# Altium footprint library ESDALC6V1W5.PcbLib: 3 footprints
Each footprint in its own frame and in the unit in brackets; x right, y up, seen from the top. Pads: shape width x height; smd on the part's side, far side on the other; paste and mask are expansions set on the pad; w line width, h text height; cw(c..) or ccw(c..) is an arc to the next point about the centre after c.
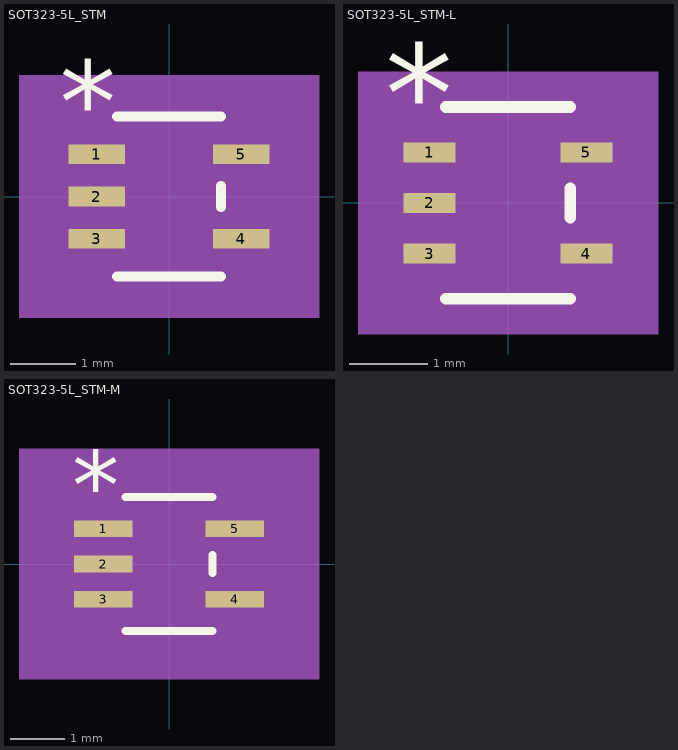
[diagram p0: the footprints below, top view; thin cyan lines are the x and y axes]

## SOT323-5L_STM [mil]
pads (5):
  rect 34.28x12 smd paste+0 mask+0: 1(-43.64,25.59) 2(-43.64,0) 3(-43.64,-25.59) 4(43.64,-25.59) 5(43.64,25.59)
Top Overlay:
  lines w6: -31.5,-48.5 31.5,-48.5 ; -31.5,48.5 31.5,48.5 ; 31.5,-6.49 31.5,6.49
  text "*" at -66.14,32.59 h50
Mechanical 5:
  region: 90.78,-73.5 -90.78,-73.5 -90.78,73.5 90.78,73.5
Mechanical 13:
  lines w0: -12,43.5 ccw(c0,43.5) 12,43.5
  lines w1: -47,-31.59 -47,-19.59 -26.5,-19.59 -26.5,-31.59 -47,-31.59 ; -47,-6 -47,6 -26.5,6 -26.5,-6 -47,-6 ; -47,19.59 -47,31.59 -26.5,31.59 -26.5,19.59 -47,19.59 ; -26.5,-43.5 26.5,-43.5 26.5,43.5 -26.5,43.5 -26.5,-43.5 ; 26.5,-31.59 26.5,-19.59 47,-19.59 47,-31.59 26.5,-31.59 ; 26.5,19.59 26.5,31.59 47,31.59 47,19.59 26.5,19.59
  text "*" at -29,-10.41 h50
Mechanical 15:
  region: 41.5,-58.5 -41.5,-58.5 -41.5,-37.59 -68,-37.59 -68,37.59 -41.5,37.59 -41.5,58.5 41.5,58.5 41.5,37.59 68,37.59 68,-37.59 41.5,-37.59
  lines w6: -68,-37.59 -41.5,-37.59 -41.5,-58.5 41.5,-58.5 41.5,-37.59 68,-37.59 68,37.59 41.5,37.59 41.5,58.5 -41.5,58.5 -41.5,37.59 -68,37.59 -68,-37.59
3D body: height 10, standoff 0, extent 0,0 10,10

## SOT323-5L_STM-L [mm]
pads (5):
  rect 0.671x0.255 smd paste+0 mask+0: 1(-1.008,0.65) 2(-1.008,0) 3(-1.008,-0.65) 4(1.008,-0.65) 5(1.008,0.65)
Top Overlay:
  lines w0.152: -0.8,-1.232 0.8,-1.232 ; -0.8,1.232 0.8,1.232 ; 0.8,-0.19 0.8,0.19
  text "*" at -1.58,0.778 h1.27
Mechanical 5:
  region: 1.928,-1.689 -1.928,-1.689 -1.928,1.689 1.928,1.689
Mechanical 13:
  lines w0: -0.305,1.105 ccw(c0,1.105) 0.305,1.105
  lines w0.025: -1.194,-0.802 -1.194,-0.498 -0.673,-0.498 -0.673,-0.802 -1.194,-0.802 ; -1.194,-0.152 -1.194,0.152 -0.673,0.152 -0.673,-0.152 -1.194,-0.152 ; -1.194,0.498 -1.194,0.802 -0.673,0.802 -0.673,0.498 -1.194,0.498 ; -0.673,-1.105 0.673,-1.105 0.673,1.105 -0.673,1.105 -0.673,-1.105 ; 0.673,-0.802 0.673,-0.498 1.194,-0.498 1.194,-0.802 0.673,-0.802 ; 0.673,0.498 0.673,0.802 1.194,0.802 1.194,0.498 0.673,0.498
  text "*" at -0.737,-0.314 h1.27
Mechanical 15:
  region: 0.876,-1.308 -0.876,-1.308 -0.876,-0.905 -1.524,-0.905 -1.524,0.905 -0.876,0.905 -0.876,1.308 0.876,1.308 0.876,0.905 1.524,0.905 1.524,-0.905 0.876,-0.905
  lines w0.152: -1.524,-0.905 -0.876,-0.905 -0.876,-1.308 0.876,-1.308 0.876,-0.905 1.524,-0.905 1.524,0.905 0.876,0.905 0.876,1.308 -0.876,1.308 -0.876,0.905 -1.524,0.905 -1.524,-0.905
3D body: height 0.25, standoff 0, extent 0,0 0.254,0.254

## SOT323-5L_STM-M [mil]
pads (5):
  rect 42.15x12 smd paste+0 mask+0: 1(-47.58,25.59) 2(-47.58,0) 3(-47.58,-25.59) 4(47.58,-25.59) 5(47.58,25.59)
Top Overlay:
  lines w6: -31.5,-48.5 31.5,-48.5 ; -31.5,48.5 31.5,48.5 ; 31.5,-6.49 31.5,6.49
  text "*" at -70.08,32.59 h50
Mechanical 5:
  region: 108.65,-83.5 -108.65,-83.5 -108.65,83.5 108.65,83.5
Mechanical 13:
  lines w0: -12,43.5 ccw(c0,43.5) 12,43.5
  lines w1: -47,-31.59 -47,-19.59 -26.5,-19.59 -26.5,-31.59 -47,-31.59 ; -47,-6 -47,6 -26.5,6 -26.5,-6 -47,-6 ; -47,19.59 -47,31.59 -26.5,31.59 -26.5,19.59 -47,19.59 ; -26.5,-43.5 26.5,-43.5 26.5,43.5 -26.5,43.5 -26.5,-43.5 ; 26.5,-31.59 26.5,-19.59 47,-19.59 47,-31.59 26.5,-31.59 ; 26.5,19.59 26.5,31.59 47,31.59 47,19.59 26.5,19.59
  text "*" at -29,-10.41 h50
Mechanical 15:
  region: 51.5,-68.5 -51.5,-68.5 -51.5,-37.59 -78,-37.59 -78,37.59 -51.5,37.59 -51.5,68.5 51.5,68.5 51.5,37.59 78,37.59 78,-37.59 51.5,-37.59
  lines w6: -78,-37.59 -51.5,-37.59 -51.5,-68.5 51.5,-68.5 51.5,-37.59 78,-37.59 78,37.59 51.5,37.59 51.5,68.5 -51.5,68.5 -51.5,37.59 -78,37.59 -78,-37.59
3D body: height 10, standoff 0, extent 0,0 10,10